# Altium schematic symbol library Header 1X2A.SchLib: 1 symbol
Pins are listed as number, name and electrical type; pins without a type are passive.

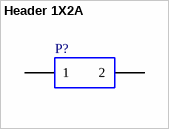
[diagram p0: symbol Header 1X2A]

## Header 1X2A
designator P?
Header, 1-Pin, Dual row
pins: 1, 2